# Altium footprint library Passives.PcbLib: 23 footprints (part 1 of 2)
Each footprint in its own frame and in the unit in brackets; x right, y up, seen from the top. Pads: shape width x height; smd on the part's side, far side on the other; paste and mask are expansions set on the pad; w line width, h text height; cw(c..) or ccw(c..) is an arc to the next point about the centre after c.
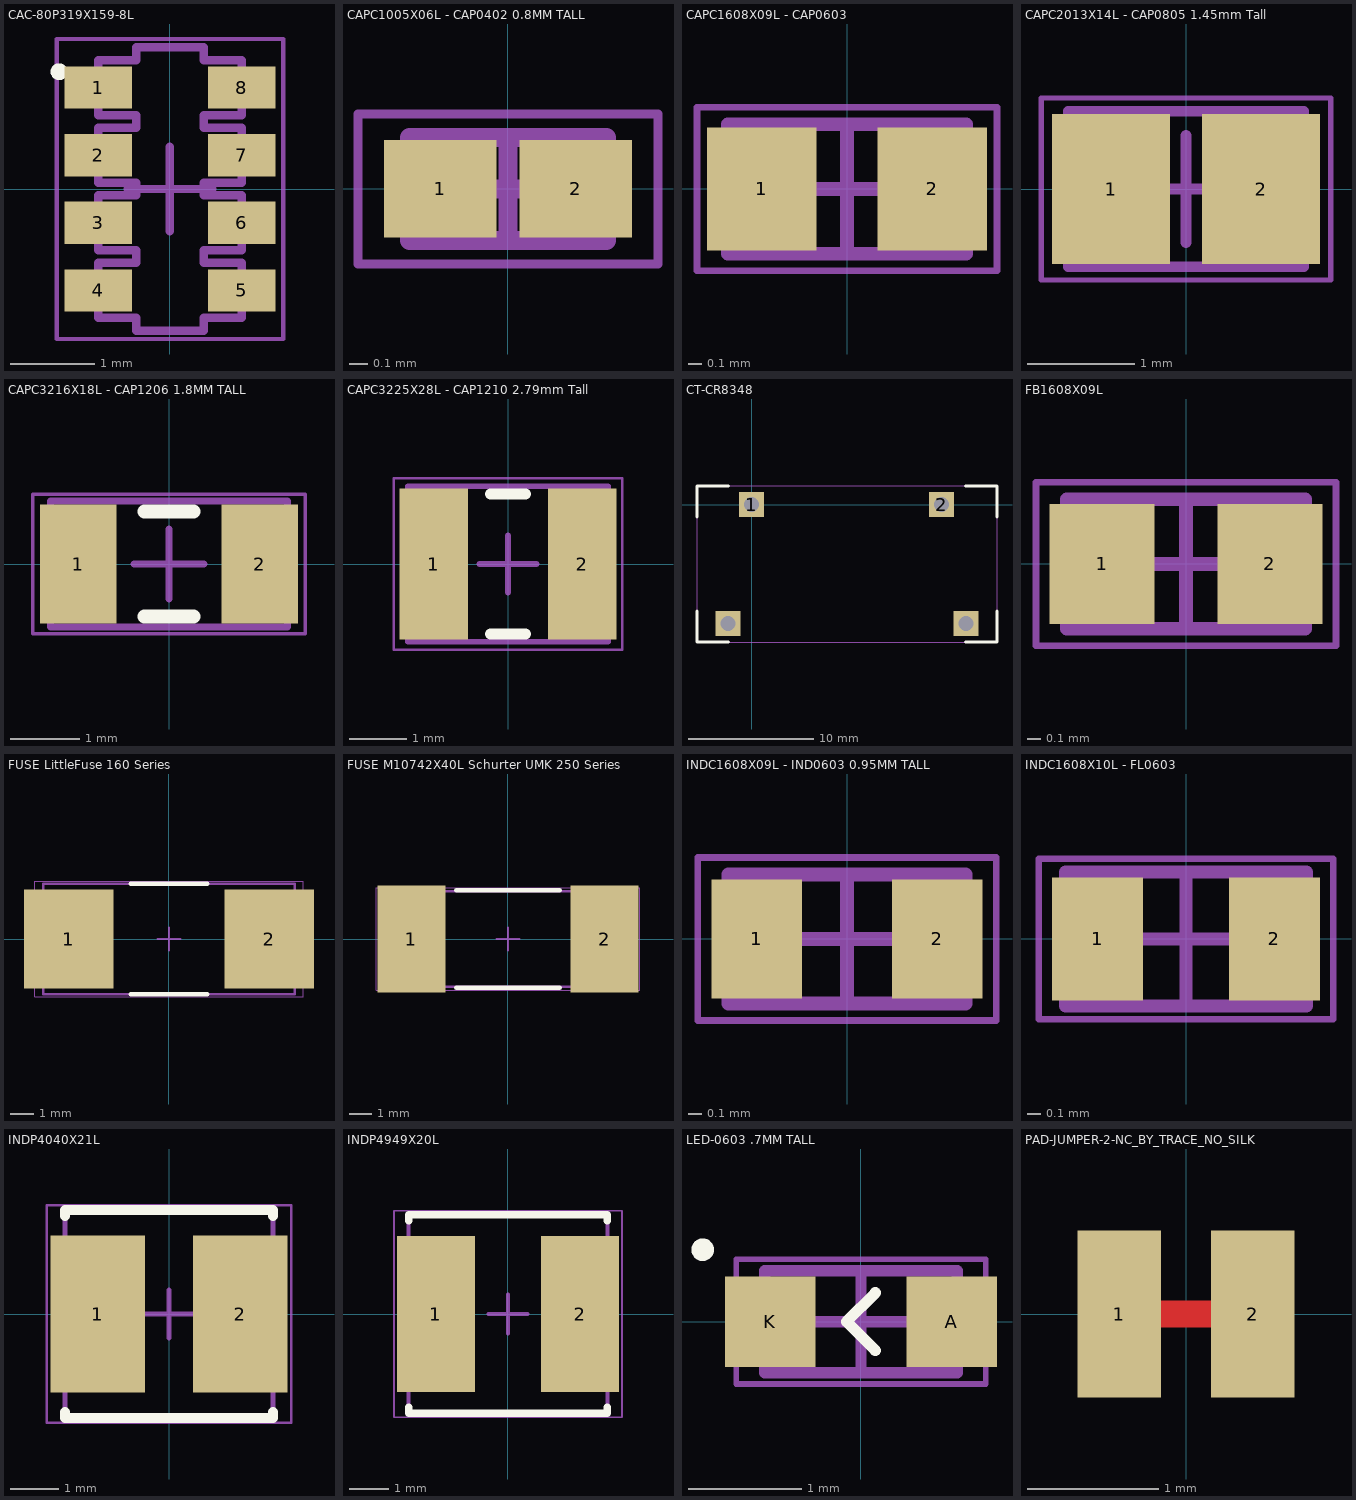
[diagram p0: the footprints below, top view; thin cyan lines are the x and y axes]

## CAC-80P319X159-8L [mm] "Chip Array, ConvexE, 8-Leads, Pitch 0.80mm,  Body 3.20x1.60mm,  IPC High Density"
height 0.7
pads (8):
  rect 0.8x0.5 smd: 1(-0.85,1.2) 2(-0.85,0.4) 3(-0.85,-0.4) 4(-0.85,-1.2) 5(0.85,-1.2) 6(0.85,-0.4) 7(0.85,0.4) 8(0.85,1.2)
Top Overlay:
  circle w0.1: c-1.312,1.388 r0.05
Mechanical 13:
  lines w0.1: -0.85,-1.525 -0.85,-0.875 -0.4,-0.875 -0.4,-0.725 -0.85,-0.725 -0.85,-0.075 -0.4,-0.075 -0.4,0.075 -0.85,0.075 -0.85,0.725 -0.4,0.725 -0.4,0.875 -0.85,0.875 -0.85,1.525 -0.4,1.525 -0.4,1.675 0.4,1.675 0.4,1.525 0.85,1.525 0.85,0.875 0.4,0.875 0.4,0.725 0.85,0.725 0.85,0.075 0.4,0.075 0.4,-0.075 0.85,-0.075 0.85,-0.725 0.4,-0.725 0.4,-0.875 0.85,-0.875 0.85,-1.525 0.4,-1.525 0.4,-1.675 -0.4,-1.675 -0.4,-1.525 -0.85,-1.525
Mechanical 15:
  lines w0.05: -1.34,-1.775 -1.34,1.775 1.34,1.775 1.34,-1.775 -1.34,-1.775
  lines w0.1: -0.5,0 0.5,0 ; 0,-0.5 0,0.5
3D body "CAC-80P319X159-8L.step": height 0.7, standoff 0, extent -0.925,-1.675 0.925,1.675

## CAPC1005X06L - CAP0402 0.8MM TALL [mm] "Chip Capacitor, 2-Leads, Body 1.00x0.50mm, IPC High Density"
height 0.6
pads (2):
  rect 0.6x0.52 smd: 1(-0.36,0) 2(0.36,0)
Mechanical 13:
  lines w0.1: -0.525,-0.275 -0.525,0.275 0.525,0.275 0.525,-0.275 -0.525,-0.275
Mechanical 15:
  lines w0.05: -0.8,-0.4 -0.8,0.4 0.8,0.4 0.8,-0.4 -0.8,-0.4
  lines w0.1: -0.275,0 0.275,0 ; 0,-0.275 0,0.275
3D body: height 0.6, standoff 0, extent -0.225,-0.275 0.225,0.275
3D body: height 0.6, standoff 0, extent -0.525,-0.275 -0.225,0.275
3D body: height 0.6, standoff 0, extent 0.225,-0.275 0.525,0.275

## CAPC1608X09L - CAP0603 [mm] "Chip Capacitor, 2-Leads, Body 1.60x0.80mm, IPC High Density"
height 0.9
pads (2):
  rect 0.8x0.9 smd: 1(-0.625,0) 2(0.625,0)
Mechanical 13:
  lines w0.1: -0.875,-0.475 0.875,-0.475 0.875,0.475 -0.875,0.475 -0.875,-0.475
Mechanical 15:
  lines w0.05: -1.1,-0.6 1.1,-0.6 1.1,0.6 -1.1,0.6 -1.1,-0.6
  lines w0.1: -0.475,0 0.475,0 ; 0,-0.475 0,0.475
3D body: height 0.9, standoff 0, extent 0.525,-0.475 0.875,0.475
3D body: height 0.9, standoff 0, extent -0.875,-0.475 -0.525,0.475
3D body: height 0.9, standoff 0, extent -0.525,-0.475 0.525,0.475

## CAPC2013X14L - CAP0805 1.45mm Tall [mm] "Chip Capacitor, 2-Leads, Body 2.00x1.30mm, IPC High Density"
height 1.45
pads (2):
  rect 1.1x1.4 smd: 1(-0.7,0) 2(0.7,0)
Mechanical 13:
  lines w0.1: -1.1,-0.725 1.1,-0.725 1.1,0.725 -1.1,0.725 -1.1,-0.725
Mechanical 15:
  lines w0.05: -1.35,-0.85 1.35,-0.85 1.35,0.85 -1.35,0.85 -1.35,-0.85
  lines w0.1: -0.5,0 0.5,0 ; 0,-0.5 0,0.5
3D body: height 1.45, standoff 0, extent 0.6,-0.725 1.1,0.725
3D body: height 1.45, standoff 0, extent -1.1,-0.725 -0.6,0.725
3D body: height 1.45, standoff 0, extent -0.6,-0.725 0.6,0.725

## CAPC3216X18L - CAP1206 1.8MM TALL [mm] "Chip Capacitor, 2-Leads, Body 3.20x1.60mm, IPC High Density"
height 1.8
pads (2):
  rect 1.1x1.7 smd: 1(-1.3,0) 2(1.3,0)
Top Overlay:
  lines w0.2: -0.35,-0.75 0.35,-0.75 ; -0.35,0.75 0.35,0.75
Mechanical 13:
  lines w0.1: -1.7,-0.9 -1.7,0.9 1.7,0.9 1.7,-0.9 -1.7,-0.9
Mechanical 15:
  lines w0.05: -1.95,-1 -1.95,1 1.95,1 1.95,-1 -1.95,-1
  lines w0.1: -0.5,0 0.5,0 ; 0,-0.5 0,0.5
3D body: height 1.8, standoff 0, extent -1.2,-0.9 1.2,0.9
3D body: height 1.8, standoff 0, extent -1.7,-0.9 -1.2,0.9
3D body: height 1.8, standoff 0, extent 1.2,-0.9 1.7,0.9

## CAPC3225X28L - CAP1210 2.79mm Tall [mm] "Chip Capacitor, 2-Leads, Body 3.20x2.50mm, IPC High Density"
height 2.79
pads (2):
  rect 1.2x2.65 smd: 1(-1.3,0) 2(1.3,0)
Top Overlay:
  lines w0.2: -0.3,-1.225 0.3,-1.225 ; -0.3,1.225 0.3,1.225
Mechanical 13:
  lines w0.1: -1.75,-1.36 -1.75,1.36 1.75,1.36 1.75,-1.36 -1.75,-1.36
Mechanical 15:
  lines w0.05: -2,-1.5 -2,1.5 2,1.5 2,-1.5 -2,-1.5
  lines w0.1: -0.5,0 0.5,0 ; 0,-0.5 0,0.5
3D body: height 2.79, standoff 0, extent -1.25,-1.36 1.25,1.36
3D body: height 2.79, standoff 0, extent -1.75,-1.36 -1.25,1.36
3D body: height 2.79, standoff 0, extent 1.25,-1.36 1.75,1.36

## CT-CR8348 [mm] "TRANSF CURRENT .27\" OPENING PCB CR8348-2000"
height 25
pads (4):
  rect 2x2 hole 1.2: 1(0,0) 2(15.2,0) ""(-1.9,-9.5) ""(17.15,-9.5)
Top Overlay:
  lines w0.25: -4.375,-8.5 -4.375,-11 -1.875,-11 ; -4.375,-1 -4.375,1.5 -1.875,1.5 ; 17.125,-11 19.625,-11 19.625,-8.5 ; 17.125,1.5 19.625,1.5 19.625,-1
Mechanical 1:
  lines w0.1: -4.375,-11 19.625,-11 19.625,1.5 -4.375,1.5 -4.375,-11
3D body: height 25, standoff 0, extent -4.375,-10.1 19.625,0.6

## FB1608X09L [mm] "Chip Ferrite Bead, 2-Leads, Body 1.60x0.80mm, IPC High Density"
height 0.95
pads (2):
  rect 0.77x0.88 smd: 1(-0.615,0) 2(0.615,0)
Mechanical 13:
  lines w0.1: -0.875,-0.475 0.875,-0.475 0.875,0.475 -0.875,0.475 -0.875,-0.475
Mechanical 15:
  lines w0.05: -1.1,-0.6 1.1,-0.6 1.1,0.6 -1.1,0.6 -1.1,-0.6
  lines w0.1: -0.475,0 0.475,0 ; 0,-0.475 0,0.475
3D body: height 0.95, standoff 0, extent 0.475,-0.475 0.875,0.475
3D body: height 0.95, standoff 0, extent -0.875,-0.475 -0.475,0.475
3D body: height 0.95, standoff 0, extent -0.475,-0.475 0.475,0.475

## FUSE LittleFuse 160 Series [mm] "Molded Capacitor, 2-Leads, Body 10.90x4.80mm, IPC High Density"
height 4.8
pads (2):
  rect 3.88x4.3 smd: 1(-4.35,0) 2(4.35,0)
Top Overlay:
  lines w0.2: -1.65,-2.4 1.65,-2.4 ; -1.65,2.4 1.65,2.4
Mechanical 13:
  lines w0.1: -5.45,-2.4 5.45,-2.4 5.45,2.4 -5.45,2.4 -5.45,-2.4
Mechanical 15:
  lines w0.05: -5.825,-2.5 5.825,-2.5 5.825,2.5 -5.825,2.5 -5.825,-2.5
  lines w0.1: -0.5,0 0.5,0 ; 0,-0.5 0,0.5
3D body "FUSE LittleFuse 160 Series.step": height 4.8, standoff 0, extent -5.67,-2.4 5.67,2.4

## FUSE M10742X40L Schurter UMK 250 Series [mm] "Molded Capacitor, 2-Leads, Body 10.70x4.20mm, IPC High Density"
height 4
pads (2):
  rect 3x4.7 smd: 1(-4.25,0) 2(4.25,0)
Top Overlay:
  lines w0.2: -2.286,-2.15 2.286,-2.15 ; -2.286,2.15 2.286,2.15
Mechanical 13:
  lines w0.1: -5.35,-2.1 5.35,-2.1 5.35,2.1 -5.35,2.1 -5.35,-2.1
Mechanical 15:
  lines w0.05: -5.8,-2.25 5.8,-2.25 5.8,2.25 -5.8,2.25 -5.8,-2.25
  lines w0.1: -0.5,0 0.5,0 ; 0,-0.5 0,0.5
3D body "UMK250.STEP": height 3.97, standoff -0.03, extent -5.65,-2.106 5.65,2.094

## INDC1608X09L - IND0603 0.95MM TALL [mm] "Chip Inductor, 2-Leads, Body 1.60x0.80mm, IPC High Density"
height 0.95
pads (2):
  rect 0.67x0.88 smd: 1(-0.665,0) 2(0.665,0)
Mechanical 13:
  lines w0.1: -0.875,-0.475 0.875,-0.475 0.875,0.475 -0.875,0.475 -0.875,-0.475
Mechanical 15:
  lines w0.05: -1.1,-0.6 1.1,-0.6 1.1,0.6 -1.1,0.6 -1.1,-0.6
  lines w0.1: -0.475,0 0.475,0 ; 0,-0.475 0,0.475
3D body: height 0.95, standoff 0, extent 0.575,-0.475 0.875,0.475
3D body: height 0.95, standoff 0, extent -0.875,-0.475 -0.575,0.475
3D body: height 0.95, standoff 0, extent -0.575,-0.475 0.575,0.475

## INDC1608X10L - FL0603 [mm] "Chip Inductor, 2-Leads, Body 1.60x0.80mm, IPC High Density"
height 1
pads (2):
  rect 0.68x0.92 smd: 1(-0.66,0) 2(0.66,0)
Mechanical 13:
  lines w0.1: -0.9,-0.5 0.9,-0.5 0.9,0.5 -0.9,0.5 -0.9,-0.5
Mechanical 15:
  lines w0.05: -1.1,-0.6 1.1,-0.6 1.1,0.6 -1.1,0.6 -1.1,-0.6
  lines w0.1: -0.5,0 0.5,0 ; 0,-0.5 0,0.5
3D body: height 1, standoff 0, extent 0.6,-0.5 0.9,0.5
3D body: height 1, standoff 0, extent -0.9,-0.5 -0.6,0.5
3D body: height 1, standoff 0, extent -0.6,-0.5 0.6,0.5

## INDP4040X21L [mm] "Precision Wire Wound Inductor, 2-Leads, Body 4.00x4.00mm, IPC High Density"
height 2.1
pads (2):
  rect 1.95x3.25 smd: 1(-1.475,0) 2(1.475,0)
Top Overlay:
  lines w0.2: -2.15,-2.025 -2.15,-2.15 2.15,-2.15 2.15,-2.025 ; -2.15,2.025 -2.15,2.15 2.15,2.15 2.15,2.025
Mechanical 13:
  lines w0.1: -2.15,-2.15 -2.15,2.15 2.15,2.15 2.15,-2.15 -2.15,-2.15
Mechanical 15:
  lines w0.05: -2.525,-2.25 -2.525,2.25 2.525,2.25 2.525,-2.25 -2.525,-2.25
  lines w0.1: -0.5,0 0.5,0 ; 0,-0.5 0,0.5
3D body: height 2.1, standoff 0, extent -2.15,-2.15 2.15,2.15

## INDP4949X20L [mm] "Precision Wire Wound Inductor, 2-Leads, Body 4.90x4.90mm, IPC High Density"
height 2
pads (2):
  rect 2x4 smd: 1(-1.85,0) 2(1.85,0)
Top Overlay:
  lines w0.2: -2.55,-2.4 -2.55,-2.55 2.55,-2.55 2.55,-2.4 ; -2.55,2.4 -2.55,2.55 2.55,2.55 2.55,2.4
Mechanical 13:
  lines w0.1: -2.55,-2.55 2.55,-2.55 2.55,2.55 -2.55,2.55 -2.55,-2.55
Mechanical 15:
  lines w0.05: -2.925,-2.65 2.925,-2.65 2.925,2.65 -2.925,2.65 -2.925,-2.65
  lines w0.1: -0.5,0 0.5,0 ; 0,-0.5 0,0.5
3D body "INDP4949X20L.step": height 2.1, standoff 0, extent -2.55,-2.45 2.55,2.45

## LED-0603 .7MM TALL [mm] "Chip Diode, 2-Leads, Body 1.60x0.80mm, IPC High Density"
height 0.7
pads (2):
  rect 0.8x0.8 smd: A(0.8,0) K(-0.8,0)
Top Overlay:
  circle w0.1: c-1.397,0.635 r0.05
  lines w0.1: 0.127,-0.254 -0.127,0 0.127,0.254
Mechanical 13:
  lines w0.1: -0.85,-0.45 0.85,-0.45 0.85,0.45 -0.85,0.45 -0.85,-0.45
Mechanical 15:
  lines w0.05: -1.1,-0.55 1.1,-0.55 1.1,0.55 -1.1,0.55 -1.1,-0.55
  lines w0.1: -0.45,0 0.45,0 ; 0,-0.45 0,0.45
3D body: height 0.6, standoff 0, extent -0.383,-0.465 0.411,0.401
3D body: height 0.38, standoff 0, extent -0.584,-0.534 0.586,0.532
3D body: height 0.38, standoff 0, extent -1.007,-0.536 -0.582,0.534
3D body: height 0.38, standoff 0, extent 0.582,-0.533 1.007,0.531

## PAD-JUMPER-2-NC_BY_TRACE_NO_SILK [mil]
pads (2):
  rect 25x50 smd: 1(-20,0) 2(20,0)
Top Layer:
  lines w8: -15,0 15,0
Top Solder:
  lines w15: -15,0 15,0